# Altium schematic symbol library TJA1048.SchLib: 1 symbol
Pins are listed as number, name and electrical type; pins without a type are passive.

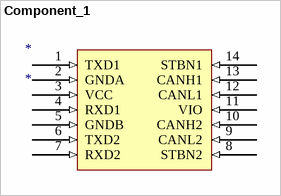
[diagram p0: symbol Component_1]

## Component_1
designator *
pins: 1 TXD1 (in), 2 GNDA (in), 3 VCC (in), 4 RXD1 (in), 5 GNDB (in), 6 TXD2 (in), 7 RXD2 (in), 8 STBN2 (in), 9 CANL2 (in), 10 CANH2 (in), 11 VIO (in), 12 CANL1 (in), 13 CANH1 (in), 14 STBN1 (in)